# Altium integrated library TI Power Management Battery Management.IntLib: 949 symbols (part 40 of 62)
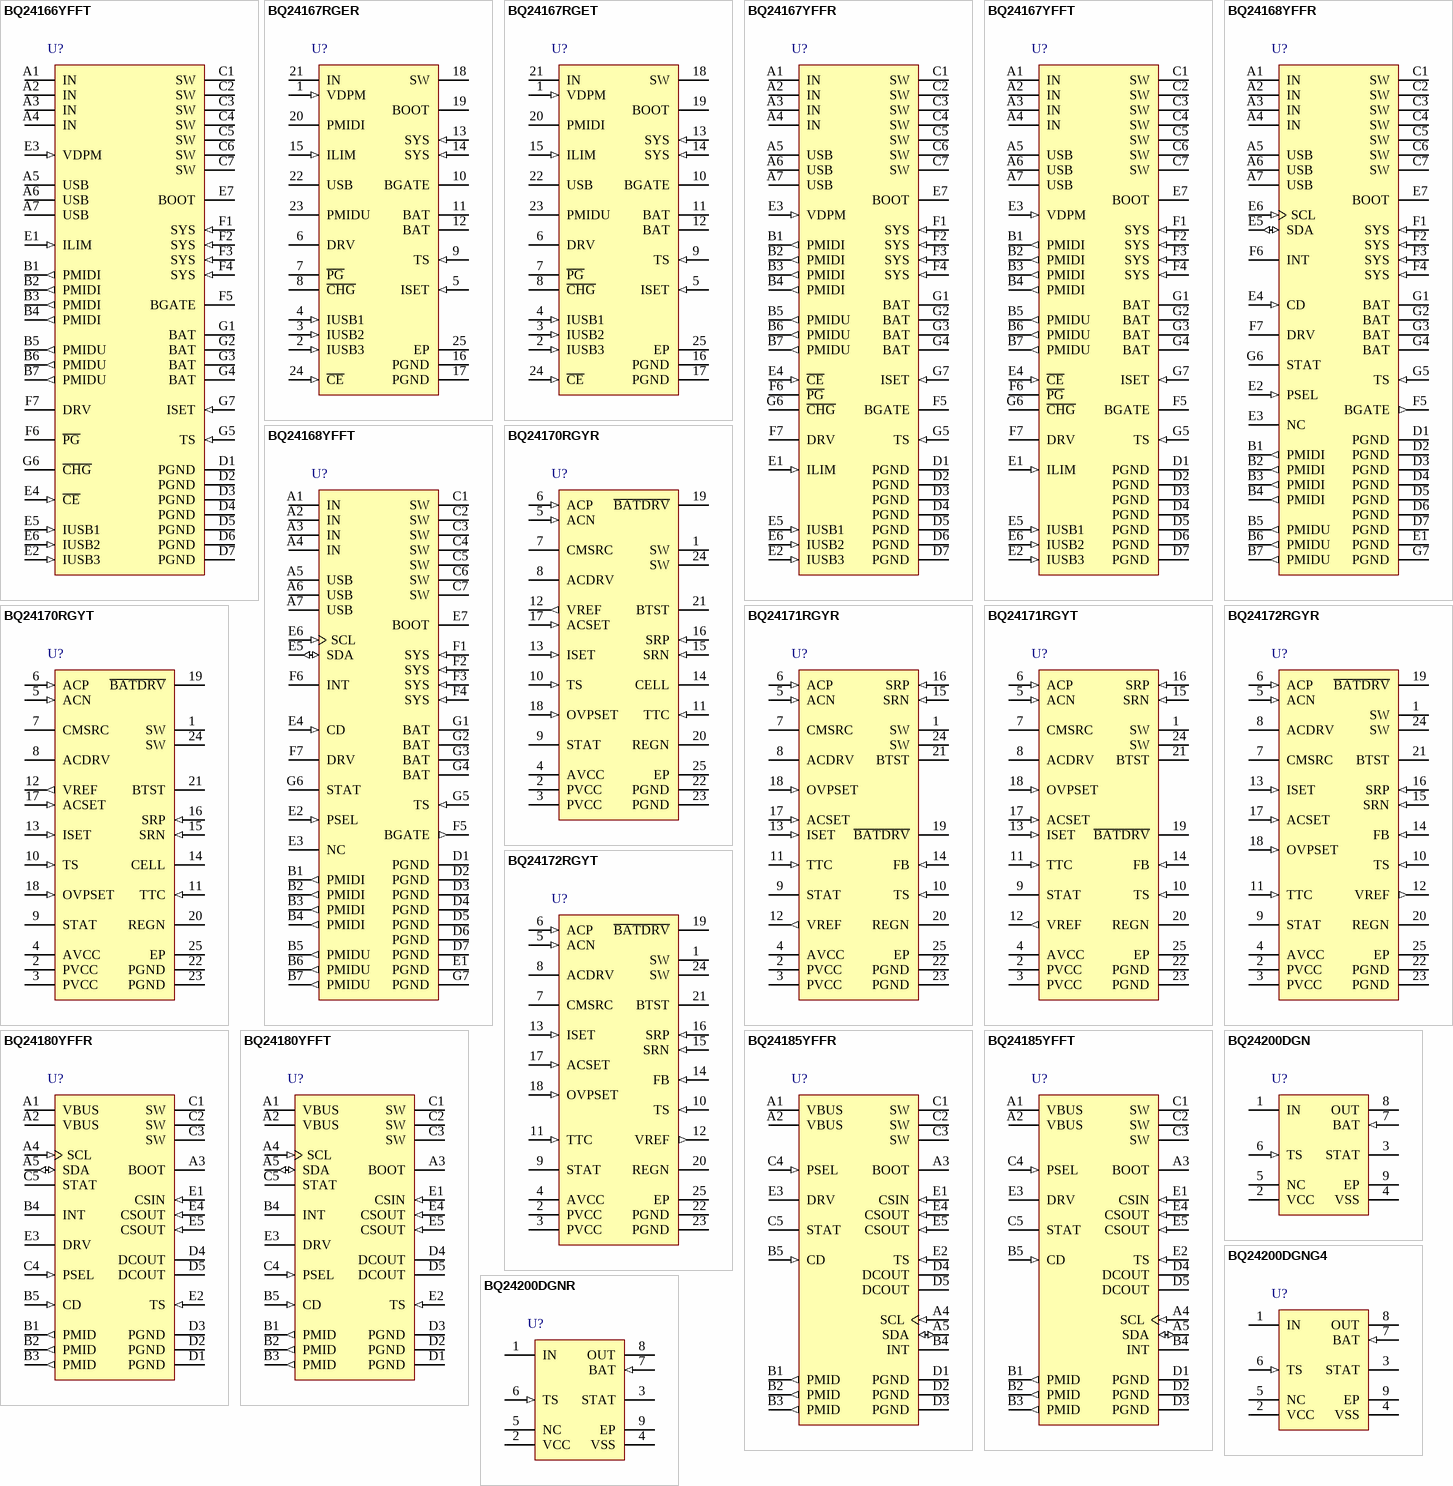
[diagram p73: symbols BQ24166YFFT to BQ24200DGNR]

## BQ24170RGYT
designator U?
1.6 MHz Synchronous Switch-Mode Li-Ion and Li-Polymer Stand-Alone Battery Charger, 4 V, -40 to 85 degC, 24-pin VQFN (RGY), Green (RoHS & no Sb/Br); PartNumber: BQ24170RGYT; Manufacturer: Texas Instruments; Lead Acid: N; SubFamily: Battery Charge Management; Vin(Min)(V): 4; DatasheetVersion: SLUSAD2B; PackageVersion: revI, Jun-2011; PackageReference: RGY24-3100X2050TP; PackageDescription: 24-Leads Plastic Quad Flatpack No-Lead, 5.5 x 3.5 x 0.9 mm Body, 0.5 mm Pitch, Exposed Pad; Supplier 1: Digi-Key; Supplier Part Number 1: 296-28049-2-ND; Supplier 2: Digi-Key; Supplier Part Number 2: 296-28049-1-ND; Supplier 3: Digi-Key; Supplier Part Number 3: 296-28049-6-ND; Supplier 4: Newark; Supplier Part Number 4: 57T9698; Supplier 5: Mouser; Supplier Part Number 5: 595-BQ24170RGYT; Eco-Plan: Green (RoHS & no Sb/Br); Li-Ion: N; Li-Polymer: N; NiCd: N; NiMH: N; Over Voltage Protection: N; Mounting Technology: Surface Mount; Code_JEDEC: MO-241-BA; ComponentLink1Description: Datasheet; ComponentLink1URL: http://www.ti.com/general/docs/lit/getliterature.tsp?genericPartNumber=BQ24170&fileType=pdf
footprint RGY24-3100X2050TP (QFN, 24-Leads, Body 5.5x3.5mm, Pitch 0.5mm, Thermal Pad 3.1x2.05mm, TI Recommended)
pins: 1 SW (power) "Switching node, charge current output inductor connection. Connect the 0.047-uF bootstrap capacitor from SW to BTST.", 2 PVCC (power) "Charger input voltage. Connect at least 10-uF ceramic capacitor from PVCC to PGND and place it as close as possible to IC", 3 PVCC (power) "Charger input voltage. Connect at least 10-uF ceramic capacitor from PVCC to PGND and place it as close as possible to IC", 4 AVCC (power) "IC power positive supply. Place a 1-uF ceramic capacitor from AVCC to AGND and place it as close as possible to IC. Place a 10-ohm resistor from input side to AVCC pin to filter the noise. For 5V input, a 5-ohm resistor is (See Datasheet)", 5 ACN (in) "Adapter current sense resistor negative input. A 0.1-uF ceramic capacitor is placed from ACN to ACP to provide differential-mode filtering. An optional 0.1-uF ceramic capacitor is placed from ACN pin to AGND for common-mode (See Datasheet)", 6 ACP (in) "Adapter current sense resistor positive input. A 0.1-uF ceramic capacitor is placed from ACN to ACP to provide differential-mode filtering. A 0.1-uF ceramic capacitor is placed from ACP pin to AGND for common-mode filtering.", 7 CMSRC "Connect to common source of N-channel ACFET and reverse blocking MOSFET (RBFET). Place 4-kohm resistor from CMSRC pin to the common source of ACFET and RBFET to control the turn-on speed. The resistance between ACDRV and CMSRC (See Datasheet)", 8 ACDRV "AC adapter to system switch driver output. Connect to 4-kohm resistor then to the gate of the ACFET N-channel power MOSFET and the reverse conduction blocking N-channel power MOSFET. Connect both FETs as common-source. The (See Datasheet)", 9 STAT (hiz) "Open-drain charge status pin with 10-kohm pull up to power rail. The STAT pin can be used to drive LED or communicate with the host processor. It indicates various charger operations: LOW when charge in progress. HIGH when (See Datasheet)", 10 TS (in) "Temperature qualification voltage input. Connect a negative temperature coefficient thermistor. Program the hot and cold temperature window with a resistor divider from VREF to TS to AGND. The temperature qualification (See Datasheet)", 11 TTC (in) "Safety Timer and termination control. Connect a capacitor from this node to AGND to set the fast charge safety timer(5.6min/nF). Pre-charge timer is internally fixed to 30 minutes. Pull the TTC to LOW to disable the charge (See Datasheet)", 12 VREF (out) "3.3V reference voltage output. Place a 1-uF ceramic capacitor from VREF to AGND pin close to the IC. This voltage could be used for programming ISET and ACSET and TS pins. It may also serve as the pull-up rail of STAT pin (See Datasheet)", 13 ISET (in) "Fast charge current set point. Use a voltage divider from VREF to ISET to AGND to set the fast charge current: ICHG=VISET/(20*RSR) The pre-charge and termination current is internally as one tenth of the charge current. The (See Datasheet)", 14 CELL "Cell selection pin. Set CELL pin LOW for 1-cell, Float for 2-cell (0.8V-1.8V), and HIGH for 3-cell with a fixed 4.2V per cell.", 15 SRN (in) "Charge current sense resistor negative input. A 0.1-uF ceramic capacitor is placed from SRN to SRP to provide differential-mode filtering. A 0.1-uF ceramic capacitor is placed from SRN pin to AGND for common-mode filtering.", 16 SRP (in) "Charge current sense resistor, positive input. A 0.1-uF ceramic capacitor is placed from SRN to SRP to provide differential-mode filtering. A 0.1-uF ceramic capacitor is placed from SRP pin to AGND for common-mode filtering.", 17 ACSET (in) "Input current set point. Use a voltage divider from VREF to ACSET to AGND to set this value:IDPM=VACSET/(20*RAC)", 18 OVPSET (in) "Valid input voltage set point. Use a voltage divider from input to OVPSET to AGND to set this voltage. The voltage above internal 1.6V reference indicates input over-voltage, and the voltage below internal 0.5V reference (See Datasheet)", 19 ~{BATDRV} "Battery discharge MOSFET gate driver output. Connect to 1kohm resistor to the gate of the BATFET P-channel power MOSFET. Connect the source of the BATFET to the system load voltage node. Connect the drain of the BATFET to (See Datasheet)", 20 REGN (power) "PWM low side driver positive 6V supply output. Connect a 1-uF ceramic capacitor from REGN to PGND pin, close to the IC. Generate high-side driver bootstrap voltage by integrated diode from REGN to BTST", 21 BTST (power) "PWM high side driver positive supply. Connect the 0.047-uF bootstrap capacitor from SW to BTST.", 22 PGND (power) "Power ground. Ground connection for high-current power converter node. On PCB layout, connect directly to ground connection of input and output capacitors of the charger. Only connect to AGND through the Thermal Pad (See Datasheet)", 23 PGND (power) "Power ground. Ground connection for high-current power converter node. On PCB layout, connect directly to ground connection of input and output capacitors of the charger. Only connect to AGND through the Thermal Pad (See Datasheet)", 24 SW (power) "Switching node, charge current output inductor connection. Connect the 0.047-uF bootstrap capacitor from SW to BTST.", 25 EP (power) "Exposed pad beneath the IC. Always solder Thermal Pad to the board, and have vias on the Thermal  Pad plane star-connecting to AGND and ground plane for high-current power converter. It dissipates the heat from the IC."

## BQ24171RGYR
designator U?
JEITA Compliant Stand-Alone Switch-Mode Li-Ion and Li-Polymer Battery Charger, 4.5 V, -40 to 85 degC, 24-pin VQFN (RGY), Green (RoHS & no Sb/Br); PartNumber: BQ24171RGYR; Manufacturer: Texas Instruments; Lead Acid: N; SubFamily: Battery Charge Management; Vin(Min)(V): 4.5; DatasheetVersion: SLUSAF2A; PackageVersion: revI, Jun-2011; PackageReference: RGY24-3100X2050TP; PackageDescription: 24-Leads Plastic Quad Flatpack No-Lead, 5.5 x 3.5 x 0.9 mm Body, 0.5 mm Pitch, Exposed Pad; Supplier 1: Digi-Key; Supplier Part Number 1: BQ24171RGYR-ND; Supplier 2: Newark; Supplier Part Number 2: 40T4615; Supplier 3: Mouser; Supplier Part Number 3: 595-BQ24171RGYR; Eco-Plan: Green (RoHS & no Sb/Br); Li-Ion: N; Li-Polymer: N; NiCd: N; NiMH: N; Over Voltage Protection: N; Mounting Technology: Surface Mount; Code_JEDEC: MO-241-BA; ComponentLink1Description: Datasheet; ComponentLink1URL: http://www.ti.com/general/docs/lit/getliterature.tsp?genericPartNumber=BQ24171&fileType=pdf
footprint RGY24-3100X2050TP (QFN, 24-Leads, Body 5.5x3.5mm, Pitch 0.5mm, Thermal Pad 3.1x2.05mm, TI Recommended)
pins: 1 SW (power) "Switching node, charge current output inductor connection. Connect the 0.047-uF bootstrap capacitor from SW to BTST.", 2 PVCC (power) "Charger input voltage. Connect at least 10-uF ceramic capacitor from PVCC to PGND and place it as close as possible to IC", 3 PVCC (power) "Charger input voltage. Connect at least 10-uF ceramic capacitor from PVCC to PGND and place it as close as possible to IC", 4 AVCC (power) "IC power positive supply. Place a 1-uF ceramic capacitor from AVCC to AGND and place it as close as possible to IC. Place a 10-ohm resistor from input side to AVCC pin to filter the noise. For 5V input, a 5-ohm resistor is (See Datasheet)", 5 ACN (in) "Adapter current sense resistor negative input. A 0.1-uF ceramic capacitor is placed from ACN to ACP to provide differential-mode filtering. An optional 0.1-uF ceramic capacitor is placed from ACN pin to AGND for common-mode (See Datasheet)", 6 ACP (in) "Adapter current sense resistor positive input. A 0.1-uF ceramic capacitor is placed from ACN to ACP to provide differential-mode filtering. A 0.1-uF ceramic capacitor is placed from ACP pin to AGND for common-mode filtering.", 7 CMSRC "Connect to common source of N-channel ACFET and reverse blocking MOSFET (RBFET). Place 4-kohm resistor from CMSRC pin to the common source of ACFET and RBFET to control the turn-on speed. The resistance between ACDRV and (See Datasheet)", 8 ACDRV "AC adapter to system switch driver output. Connect to 4-kohm resistor then to the gate of the ACFET N-channel power MOSFET and the reverse conduction blocking N-channel power MOSFET. Connect both FETs as common-source. The (See Datasheet)", 9 STAT (hiz) "Open-drain charge status pin with 10-kohm pull up to power rail. The STAT pin can be used to drive LED or communicate with the host processor. It indicates various charger operations: LOW when charge in progress. HIGH when (See Datasheet)", 10 TS (in) "Temperature qualification voltage input. Connect a negative temperature coefficient thermistor. Program the hot and cold temperature window with a resistor divider from VREF to TS to AGND.  The 103AT thermistor is (See Datasheet)", 11 TTC (in) "Safety Timer and termination control. Connect a capacitor from this node to AGND to set the fast charge safety timer(5.6min/nF). Pre-charge timer is internally fixed to 30 minutes. Pull the TTC to LOW to disable the charge (See Datasheet)", 12 VREF (out) "3.3V reference voltage output. Place a 1-uF ceramic capacitor from VREF to AGND pin close to the IC. This voltage could be used for programming ISET and ACSET and TS pins. It may also serve as the pull-up rail of STAT pin (See Datasheet)", 13 ISET (in) "Fast charge current set point. Use a voltage divider from VREF to ISET to AGND to set the fast charge current: ICHG=VISET/(20*RSR) The pre-charge and termination current is internally as one tenth of the charge current. The (See Datasheet)", 14 FB (in) "Charge voltage analog feedback adjustment. Connect the output of a resistor divider powered from the (bq24172) battery terminals to VFB to AGND. Output voltage is regulated to 2.1V on FB pin during constant-voltage mode", 15 SRN (in) "Charge current sense resistor negative input. A 0.1-uF ceramic capacitor is placed from SRN to SRP to provide differential-mode filtering. A 0.1-uF ceramic capacitor is placed from SRN pin to AGND for common-mode filtering.", 16 SRP (in) "Charge current sense resistor, positive input. A 0.1-uF ceramic capacitor is placed from SRN to SRP to provide differential-mode filtering. A 0.1-uF ceramic capacitor is placed from SRP pin to AGND for common-mode filtering.", 17 ACSET (in) "Input current set point. Use a voltage divider from VREF to ACSET to AGND to set this value:IDPM=VACSET/(20*RAC)", 18 OVPSET (in) "Valid input voltage set point. Use a voltage divider from input to OVPSET to AGND to set this voltage. The voltage above internal 1.6V reference indicates input over-voltage, and the voltage below internal 0.5V reference (See Datasheet)", 19 ~{BATDRV} "Battery discharge MOSFET gate driver output. Connect to 1kohm resistor to the gate of the BATFET P-channel power MOSFET. Connect the source of the BATFET to the system load voltage node. Connect the drain of the BATFET to (See Datasheet)", 20 REGN (power) "PWM low side driver positive 6V supply output. Connect a 1-uF ceramic capacitor from REGN to PGND pin, close to the IC. Generate high-side driver bootstrap voltage by integrated diode from REGN to BTST", 21 BTST (power) "PWM high side driver positive supply. Connect the 0.047-uF bootstrap capacitor from SW to BTST.", 22 PGND (power) "Power ground. Ground connection for high-current power converter node. On PCB layout, connect directly to ground connection of input and output capacitors of the charger. Only connect to AGND through the Thermal Pad (See Datasheet)", 23 PGND (power) "Power ground. Ground connection for high-current power converter node. On PCB layout, connect directly to ground connection of input and output capacitors of the charger. Only connect to AGND through the Thermal Pad (See Datasheet)", 24 SW (power) "Switching node, charge current output inductor connection. Connect the 0.047-uF bootstrap capacitor from SW to BTST.", 25 EP (power) "Exposed pad beneath the IC. Always solder Thermal Pad to the board, and have vias on the Thermal  Pad plane star-connecting to AGND and ground plane for high-current power converter. It dissipates the heat from the IC."

## BQ24171RGYT
designator U?
JEITA Compliant Stand-Alone Switch-Mode Li-Ion and Li-Polymer Battery Charger, 4.5 V, -40 to 85 degC, 24-pin VQFN (RGY), Green (RoHS & no Sb/Br); PartNumber: BQ24171RGYT; Manufacturer: Texas Instruments; Lead Acid: N; SubFamily: Battery Charge Management; Vin(Min)(V): 4.5; DatasheetVersion: SLUSAF2A; PackageVersion: revI, Jun-2011; PackageReference: RGY24-3100X2050TP; PackageDescription: 24-Leads Plastic Quad Flatpack No-Lead, 5.5 x 3.5 x 0.9 mm Body, 0.5 mm Pitch, Exposed Pad; Supplier 1: Digi-Key; Supplier Part Number 1: 296-28315-2-ND; Supplier 2: Digi-Key; Supplier Part Number 2: 296-28315-1-ND; Supplier 3: Digi-Key; Supplier Part Number 3: 296-28315-6-ND; Supplier 4: Newark; Supplier Part Number 4: 40T4616; Supplier 5: Mouser; Supplier Part Number 5: 595-BQ24171RGYT; Eco-Plan: Green (RoHS & no Sb/Br); Li-Ion: N; Li-Polymer: N; NiCd: N; NiMH: N; Over Voltage Protection: N; Mounting Technology: Surface Mount; Code_JEDEC: MO-241-BA; ComponentLink1Description: Datasheet; ComponentLink1URL: http://www.ti.com/general/docs/lit/getliterature.tsp?genericPartNumber=BQ24171&fileType=pdf
footprint RGY24-3100X2050TP (QFN, 24-Leads, Body 5.5x3.5mm, Pitch 0.5mm, Thermal Pad 3.1x2.05mm, TI Recommended)
pins: 1 SW (power) "Switching node, charge current output inductor connection. Connect the 0.047-uF bootstrap capacitor from SW to BTST.", 2 PVCC (power) "Charger input voltage. Connect at least 10-uF ceramic capacitor from PVCC to PGND and place it as close as possible to IC", 3 PVCC (power) "Charger input voltage. Connect at least 10-uF ceramic capacitor from PVCC to PGND and place it as close as possible to IC", 4 AVCC (power) "IC power positive supply. Place a 1-uF ceramic capacitor from AVCC to AGND and place it as close as possible to IC. Place a 10-ohm resistor from input side to AVCC pin to filter the noise. For 5V input, a 5-ohm resistor is (See Datasheet)", 5 ACN (in) "Adapter current sense resistor negative input. A 0.1-uF ceramic capacitor is placed from ACN to ACP to provide differential-mode filtering. An optional 0.1-uF ceramic capacitor is placed from ACN pin to AGND for common-mode (See Datasheet)", 6 ACP (in) "Adapter current sense resistor positive input. A 0.1-uF ceramic capacitor is placed from ACN to ACP to provide differential-mode filtering. A 0.1-uF ceramic capacitor is placed from ACP pin to AGND for common-mode filtering.", 7 CMSRC "Connect to common source of N-channel ACFET and reverse blocking MOSFET (RBFET). Place 4-kohm resistor from CMSRC pin to the common source of ACFET and RBFET to control the turn-on speed. The resistance between ACDRV and (See Datasheet)", 8 ACDRV "AC adapter to system switch driver output. Connect to 4-kohm resistor then to the gate of the ACFET N-channel power MOSFET and the reverse conduction blocking N-channel power MOSFET. Connect both FETs as common-source. The (See Datasheet)", 9 STAT (hiz) "Open-drain charge status pin with 10-kohm pull up to power rail. The STAT pin can be used to drive LED or communicate with the host processor. It indicates various charger operations: LOW when charge in progress. HIGH when (See Datasheet)", 10 TS (in) "Temperature qualification voltage input. Connect a negative temperature coefficient thermistor. Program the hot and cold temperature window with a resistor divider from VREF to TS to AGND.  The 103AT thermistor is (See Datasheet)", 11 TTC (in) "Safety Timer and termination control. Connect a capacitor from this node to AGND to set the fast charge safety timer(5.6min/nF). Pre-charge timer is internally fixed to 30 minutes. Pull the TTC to LOW to disable the charge (See Datasheet)", 12 VREF (out) "3.3V reference voltage output. Place a 1-uF ceramic capacitor from VREF to AGND pin close to the IC. This voltage could be used for programming ISET and ACSET and TS pins. It may also serve as the pull-up rail of STAT pin (See Datasheet)", 13 ISET (in) "Fast charge current set point. Use a voltage divider from VREF to ISET to AGND to set the fast charge current: ICHG=VISET/(20*RSR) The pre-charge and termination current is internally as one tenth of the charge current. The (See Datasheet)", 14 FB (in) "Charge voltage analog feedback adjustment. Connect the output of a resistor divider powered from the (bq24172) battery terminals to VFB to AGND. Output voltage is regulated to 2.1V on FB pin during constant-voltage mode", 15 SRN (in) "Charge current sense resistor negative input. A 0.1-uF ceramic capacitor is placed from SRN to SRP to provide differential-mode filtering. A 0.1-uF ceramic capacitor is placed from SRN pin to AGND for common-mode filtering.", 16 SRP (in) "Charge current sense resistor, positive input. A 0.1-uF ceramic capacitor is placed from SRN to SRP to provide differential-mode filtering. A 0.1-uF ceramic capacitor is placed from SRP pin to AGND for common-mode filtering.", 17 ACSET (in) "Input current set point. Use a voltage divider from VREF to ACSET to AGND to set this value:IDPM=VACSET/(20*RAC)", 18 OVPSET (in) "Valid input voltage set point. Use a voltage divider from input to OVPSET to AGND to set this voltage. The voltage above internal 1.6V reference indicates input over-voltage, and the voltage below internal 0.5V reference (See Datasheet)", 19 ~{BATDRV} "Battery discharge MOSFET gate driver output. Connect to 1kohm resistor to the gate of the BATFET P-channel power MOSFET. Connect the source of the BATFET to the system load voltage node. Connect the drain of the BATFET to (See Datasheet)", 20 REGN (power) "PWM low side driver positive 6V supply output. Connect a 1-uF ceramic capacitor from REGN to PGND pin, close to the IC. Generate high-side driver bootstrap voltage by integrated diode from REGN to BTST", 21 BTST (power) "PWM high side driver positive supply. Connect the 0.047-uF bootstrap capacitor from SW to BTST.", 22 PGND (power) "Power ground. Ground connection for high-current power converter node. On PCB layout, connect directly to ground connection of input and output capacitors of the charger. Only connect to AGND through the Thermal Pad (See Datasheet)", 23 PGND (power) "Power ground. Ground connection for high-current power converter node. On PCB layout, connect directly to ground connection of input and output capacitors of the charger. Only connect to AGND through the Thermal Pad (See Datasheet)", 24 SW (power) "Switching node, charge current output inductor connection. Connect the 0.047-uF bootstrap capacitor from SW to BTST.", 25 EP (power) "Exposed pad beneath the IC. Always solder Thermal Pad to the board, and have vias on the Thermal  Pad plane star-connecting to AGND and ground plane for high-current power converter. It dissipates the heat from the IC."

## BQ24172RGYR
designator U?
1.6 MHz Synchronous Switch-Mode Li-Ion and Li-Polymer Stand-alone Battery Charge, 4.5 V, -40 to 85 degC, 24-pin VQFN (RGY), Green (RoHS & no Sb/Br); PartNumber: BQ24172RGYR; Manufacturer: Texas Instruments; Lead Acid: N; SubFamily: Battery Charge Management; Vin(Min)(V): 4.5; DatasheetVersion: SLUSAD2B; PackageVersion: revI, Jun-2011; PackageReference: RGY24-3100X2050TP; PackageDescription: 24-Leads Plastic Quad Flatpack No-Lead, 5.5 x 3.5 x 0.9 mm Body, 0.5 mm Pitch, Exposed Pad; Supplier 1: Digi-Key; Supplier Part Number 1: BQ24172RGYR-ND; Supplier 2: Newark; Supplier Part Number 2: 27T2629; Supplier 3: Mouser; Supplier Part Number 3: 595-BQ24172RGYR; Eco-Plan: Green (RoHS & no Sb/Br); Li-Ion: N; Li-Polymer: N; NiCd: N; NiMH: N; Over Voltage Protection: N; Mounting Technology: Surface Mount; Code_JEDEC: MO-241-BA; ComponentLink1Description: Datasheet; ComponentLink1URL: http://www.ti.com/general/docs/lit/getliterature.tsp?genericPartNumber=BQ24172&fileType=pdf
footprint RGY24-3100X2050TP (QFN, 24-Leads, Body 5.5x3.5mm, Pitch 0.5mm, Thermal Pad 3.1x2.05mm, TI Recommended)
pins: 1 SW (power) "Switching node, charge current output inductor connection. Connect the 0.047-uF bootstrap capacitor from SW to BTST.", 2 PVCC (power) "Charger input voltage. Connect at least 10-uF ceramic capacitor from PVCC to PGND and place it as close as possible to IC", 3 PVCC (power) "Charger input voltage. Connect at least 10-uF ceramic capacitor from PVCC to PGND and place it as close as possible to IC", 4 AVCC (power) "IC power positive supply. Place a 1-uF ceramic capacitor from AVCC to AGND and place it as close as possible to IC. Place a 10-ohm resistor from input side to AVCC pin to filter the noise. For 5V input, a 5-ohm resistor is (See Datasheet)", 5 ACN (in) "Adapter current sense resistor negative input. A 0.1-uF ceramic capacitor is placed from ACN to ACP to provide differential-mode filtering. An optional 0.1-uF ceramic capacitor is placed from ACN pin to AGND for common-mode (See Datasheet)", 6 ACP (in) "Adapter current sense resistor positive input. A 0.1-uF ceramic capacitor is placed from ACN to ACP to provide differential-mode filtering. A 0.1-uF ceramic capacitor is placed from ACP pin to AGND for common-mode filtering.", 7 CMSRC "Connect to common source of N-channel ACFET and reverse blocking MOSFET (RBFET). Place 4-kohm resistor from CMSRC pin to the common source of ACFET and RBFET to control the turn-on speed. The resistance between ACDRV and (See Datasheet)", 8 ACDRV "AC adapter to system switch driver output. Connect to 4-kohm resistor then to the gate of the ACFET N-channel power MOSFET and the reverse conduction blocking N-channel power MOSFET. Connect both FETs as common-source. The (See Datasheet)", 9 STAT (hiz) "Open-drain charge status pin with 10-kohm pull up to power rail. The STAT pin can be used to drive LED or communicate with the host processor. It indicates various charger operations: LOW when charge in progress. HIGH when (See Datasheet)", 10 TS (in) "Temperature qualification voltage input. Connect a negative temperature coefficient thermistor. Program the hot and cold temperature window with a resistor divider from VREF to TS to AGND. The temperature qualification (See Datasheet)", 11 TTC (in) "Safety Timer and termination control. Connect a capacitor from this node to AGND to set the fast charge safety timer(5.6min/nF). Pre-charge timer is internally fixed to 30 minutes. Pull the TTC to LOW to disable the charge (See Datasheet)", 12 VREF (out) "3.3V reference voltage output. Place a 1-uF ceramic capacitor from VREF to AGND pin close to the IC. This voltage could be used for programming ISET and ACSET and TS pins. It may also serve as the pull-up rail of STAT pin (See Datasheet)", 13 ISET (in) "Fast charge current set point. Use a voltage divider from VREF to ISET to AGND to set the fast charge current: ICHG=VISET/(20*RSR) The pre-charge and termination current is internally as one tenth of the charge current. The (See Datasheet)", 14 FB (in) "Charge voltage analog feedback adjustment. Connect the output of a resistor divider powered from the (bq24172) battery terminals to VFB to AGND. Output voltage is regulated to 2.1V on FB pin during constant-voltage mode", 15 SRN (in) "Charge current sense resistor negative input. A 0.1-uF ceramic capacitor is placed from SRN to SRP to provide differential-mode filtering. A 0.1-uF ceramic capacitor is placed from SRN pin to AGND for common-mode filtering.", 16 SRP (in) "Charge current sense resistor, positive input. A 0.1-uF ceramic capacitor is placed from SRN to SRP to provide differential-mode filtering. A 0.1-uF ceramic capacitor is placed from SRP pin to AGND for common-mode filtering.", 17 ACSET (in) "Input current set point. Use a voltage divider from VREF to ACSET to AGND to set this value:IDPM=VACSET/(20*RAC)", 18 OVPSET (in) "Valid input voltage set point. Use a voltage divider from input to OVPSET to AGND to set this voltage. The voltage above internal 1.6V reference indicates input over-voltage, and the voltage below internal 0.5V reference (See Datasheet)", 19 ~{BATDRV} "Battery discharge MOSFET gate driver output. Connect to 1kohm resistor to the gate of the BATFET P-channel power MOSFET. Connect the source of the BATFET to the system load voltage node. Connect the drain of the BATFET to (See Datasheet)", 20 REGN (power) "PWM low side driver positive 6V supply output. Connect a 1-uF ceramic capacitor from REGN to PGND pin, close to the IC. Generate high-side driver bootstrap voltage by integrated diode from REGN to BTST", 21 BTST (power) "PWM high side driver positive supply. Connect the 0.047-uF bootstrap capacitor from SW to BTST.", 22 PGND (power) "Power ground. Ground connection for high-current power converter node. On PCB layout, connect directly to ground connection of input and output capacitors of the charger. Only connect to AGND through the Thermal Pad (See Datasheet)", 23 PGND (power) "Power ground. Ground connection for high-current power converter node. On PCB layout, connect directly to ground connection of input and output capacitors of the charger. Only connect to AGND through the Thermal Pad (See Datasheet)", 24 SW (power) "Switching node, charge current output inductor connection. Connect the 0.047-uF bootstrap capacitor from SW to BTST.", 25 EP (power) "Exposed pad beneath the IC. Always solder Thermal Pad to the board, and have vias on the Thermal  Pad plane star-connecting to AGND and ground plane for high-current power converter. It dissipates the heat from the IC."

## BQ24172RGYT
designator U?
1.6 MHz Synchronous Switch-Mode Li-Ion and Li-Polymer Stand-alone Battery Charge, 4.5 V, -40 to 85 degC, 24-pin VQFN (RGY), Green (RoHS & no Sb/Br); PartNumber: BQ24172RGYT; Manufacturer: Texas Instruments; Lead Acid: N; SubFamily: Battery Charge Management; Vin(Min)(V): 4.5; DatasheetVersion: SLUSAD2B; PackageVersion: revI, Jun-2011; PackageReference: RGY24-3100X2050TP; PackageDescription: 24-Leads Plastic Quad Flatpack No-Lead, 5.5 x 3.5 x 0.9 mm Body, 0.5 mm Pitch, Exposed Pad; Supplier 1: Digi-Key; Supplier Part Number 1: 296-28050-2-ND; Supplier 2: Digi-Key; Supplier Part Number 2: 296-28050-1-ND; Supplier 3: Digi-Key; Supplier Part Number 3: 296-28050-6-ND; Supplier 4: Newark; Supplier Part Number 4: 57T9699; Supplier 5: Mouser; Supplier Part Number 5: 595-BQ24172RGYT; Eco-Plan: Green (RoHS & no Sb/Br); Li-Ion: N; Li-Polymer: N; NiCd: N; NiMH: N; Over Voltage Protection: N; Mounting Technology: Surface Mount; Code_JEDEC: MO-241-BA; ComponentLink1Description: Datasheet; ComponentLink1URL: http://www.ti.com/general/docs/lit/getliterature.tsp?genericPartNumber=BQ24172&fileType=pdf
footprint RGY24-3100X2050TP (QFN, 24-Leads, Body 5.5x3.5mm, Pitch 0.5mm, Thermal Pad 3.1x2.05mm, TI Recommended)
pins: 1 SW (power) "Switching node, charge current output inductor connection. Connect the 0.047-uF bootstrap capacitor from SW to BTST.", 2 PVCC (power) "Charger input voltage. Connect at least 10-uF ceramic capacitor from PVCC to PGND and place it as close as possible to IC", 3 PVCC (power) "Charger input voltage. Connect at least 10-uF ceramic capacitor from PVCC to PGND and place it as close as possible to IC", 4 AVCC (power) "IC power positive supply. Place a 1-uF ceramic capacitor from AVCC to AGND and place it as close as possible to IC. Place a 10-ohm resistor from input side to AVCC pin to filter the noise. For 5V input, a 5-ohm resistor is (See Datasheet)", 5 ACN (in) "Adapter current sense resistor negative input. A 0.1-uF ceramic capacitor is placed from ACN to ACP to provide differential-mode filtering. An optional 0.1-uF ceramic capacitor is placed from ACN pin to AGND for common-mode (See Datasheet)", 6 ACP (in) "Adapter current sense resistor positive input. A 0.1-uF ceramic capacitor is placed from ACN to ACP to provide differential-mode filtering. A 0.1-uF ceramic capacitor is placed from ACP pin to AGND for common-mode filtering.", 7 CMSRC "Connect to common source of N-channel ACFET and reverse blocking MOSFET (RBFET). Place 4-kohm resistor from CMSRC pin to the common source of ACFET and RBFET to control the turn-on speed. The resistance between ACDRV and (See Datasheet)", 8 ACDRV "AC adapter to system switch driver output. Connect to 4-kohm resistor then to the gate of the ACFET N-channel power MOSFET and the reverse conduction blocking N-channel power MOSFET. Connect both FETs as common-source. The (See Datasheet)", 9 STAT (hiz) "Open-drain charge status pin with 10-kohm pull up to power rail. The STAT pin can be used to drive LED or communicate with the host processor. It indicates various charger operations: LOW when charge in progress. HIGH when (See Datasheet)", 10 TS (in) "Temperature qualification voltage input. Connect a negative temperature coefficient thermistor. Program the hot and cold temperature window with a resistor divider from VREF to TS to AGND. The temperature qualification (See Datasheet)", 11 TTC (in) "Safety Timer and termination control. Connect a capacitor from this node to AGND to set the fast charge safety timer(5.6min/nF). Pre-charge timer is internally fixed to 30 minutes. Pull the TTC to LOW to disable the charge (See Datasheet)", 12 VREF (out) "3.3V reference voltage output. Place a 1-uF ceramic capacitor from VREF to AGND pin close to the IC. This voltage could be used for programming ISET and ACSET and TS pins. It may also serve as the pull-up rail of STAT pin (See Datasheet)", 13 ISET (in) "Fast charge current set point. Use a voltage divider from VREF to ISET to AGND to set the fast charge current: ICHG=VISET/(20*RSR) The pre-charge and termination current is internally as one tenth of the charge current. The (See Datasheet)", 14 FB (in) "Charge voltage analog feedback adjustment. Connect the output of a resistor divider powered from the (bq24172) battery terminals to VFB to AGND. Output voltage is regulated to 2.1V on FB pin during constant-voltage mode", 15 SRN (in) "Charge current sense resistor negative input. A 0.1-uF ceramic capacitor is placed from SRN to SRP to provide differential-mode filtering. A 0.1-uF ceramic capacitor is placed from SRN pin to AGND for common-mode filtering.", 16 SRP (in) "Charge current sense resistor, positive input. A 0.1-uF ceramic capacitor is placed from SRN to SRP to provide differential-mode filtering. A 0.1-uF ceramic capacitor is placed from SRP pin to AGND for common-mode filtering.", 17 ACSET (in) "Input current set point. Use a voltage divider from VREF to ACSET to AGND to set this value:IDPM=VACSET/(20*RAC)", 18 OVPSET (in) "Valid input voltage set point. Use a voltage divider from input to OVPSET to AGND to set this voltage. The voltage above internal 1.6V reference indicates input over-voltage, and the voltage below internal 0.5V reference (See Datasheet)", 19 ~{BATDRV} "Battery discharge MOSFET gate driver output. Connect to 1kohm resistor to the gate of the BATFET P-channel power MOSFET. Connect the source of the BATFET to the system load voltage node. Connect the drain of the BATFET to (See Datasheet)", 20 REGN (power) "PWM low side driver positive 6V supply output. Connect a 1-uF ceramic capacitor from REGN to PGND pin, close to the IC. Generate high-side driver bootstrap voltage by integrated diode from REGN to BTST", 21 BTST (power) "PWM high side driver positive supply. Connect the 0.047-uF bootstrap capacitor from SW to BTST.", 22 PGND (power) "Power ground. Ground connection for high-current power converter node. On PCB layout, connect directly to ground connection of input and output capacitors of the charger. Only connect to AGND through the Thermal Pad (See Datasheet)", 23 PGND (power) "Power ground. Ground connection for high-current power converter node. On PCB layout, connect directly to ground connection of input and output capacitors of the charger. Only connect to AGND through the Thermal Pad (See Datasheet)", 24 SW (power) "Switching node, charge current output inductor connection. Connect the 0.047-uF bootstrap capacitor from SW to BTST.", 25 EP (power) "Exposed pad beneath the IC. Always solder Thermal Pad to the board, and have vias on the Thermal  Pad plane star-connecting to AGND and ground plane for high-current power converter. It dissipates the heat from the IC."

## BQ24180YFFR
designator U?
Fully Integrated Switch-Mode 1-Cell Li-Ion Charger with Full USB Compliance, 4 V, 25-pin DSBGA (YFF), Green (RoHS & no Sb/Br); PartNumber: BQ24180YFFR; Manufacturer: Texas Instruments; Lead Acid: N; SubFamily: Battery Charge Management; Vin(Min)(V): 4; DatasheetVersion: SLUSA02A; PackageVersion: revAE, Nov-2011; PackageReference: YFF25-2200X2400DE; PackageDescription: 25-Ball Die-Size Ball Grid Array, 2.2 x 2.4 mm Body, 0.4 mm Pitch, Pb-Free; Supplier 1: Digi-Key; Supplier Part Number 1: 296-25889-2-ND; Supplier 2: Digi-Key; Supplier Part Number 2: 296-25889-1-ND; Supplier 3: Digi-Key; Supplier Part Number 3: 296-25889-6-ND; Supplier 4: Newark; Supplier Part Number 4: 79R9641; Supplier 5: Mouser; Supplier Part Number 5: 595-BQ24180YFFR; Eco-Plan: Green (RoHS & no Sb/Br); Li-Ion: N; Li-Polymer: N; NiCd: N; NiMH: N; Over Voltage Protection: N; Mounting Technology: Surface Mount; ComponentLink1Description: Datasheet; ComponentLink1URL: http://www.ti.com/general/docs/lit/getliterature.tsp?genericPartNumber=BQ24180&fileType=pdf
footprint YFF25-2200X2400DE (BGA, 25-Leads, Body 2.2x2.4mm, Pitch 0.4mm)
pins: A1 VBUS (power) "Charger Input Voltage. Connect to an input supply up to 16V. Bypass VBUS to PGND with a 1 uF ceramic capacitor. During boost mode, VBUS is regulated to 5V at up to 300mA to power USB OTG peripherals.", A2 VBUS (power) "Charger Input Voltage. Connect to an input supply up to 16V. Bypass VBUS to PGND with a 1 uF ceramic capacitor. During boost mode, VBUS is regulated to 5V at up to 300mA to power USB OTG peripherals.", A3 BOOT (power) "High-Side MOSFET Gate Driver Supply. Connect a 10nF ceramic capacitor (voltage rating above 10V) from BOOT pin to SW pin to supply the gate drive for the high side MOSFET.", A4 SCL (in) "I2C interface clock. Connect SCL to the logic rail through a 10k ohm resistor", A5 SDA (io) "I2C interface data. Connect SCL to the logic rail through a 10k ohm  resistor", B1 PMID (out) "Connection Point Between Reverse Blocking MOSFET and High-Side Switching MOSFET. Bypass PMID to PGND with a minimum of 3.3 uF ceramic capacitor. Use caution when connecting an external load to PMID. The PMID output is not (See Datasheet)", B2 PMID (out) "Connection Point Between Reverse Blocking MOSFET and High-Side Switching MOSFET. Bypass PMID to PGND with a minimum of 3.3 uF ceramic capacitor. Use caution when connecting an external load to PMID. The PMID output is not (See Datasheet)", B3 PMID (out) "Connection Point Between Reverse Blocking MOSFET and High-Side Switching MOSFET. Bypass PMID to PGND with a minimum of 3.3 uF ceramic capacitor. Use caution when connecting an external load to PMID. The PMID output is not (See Datasheet)", B4 INT (hiz) "Host Interface Status Output. INT is a low voltage open drain output used to signal charge status to the host processor. INT is pulled low during charging. When charging is complete or when charging is disabled, INT is high (See Datasheet)", B5 CD (in) "Hardware Disable Input. Connect CD to GND to enable charge. Drive CD high to disable charge and place the bq24185 into high impedance mode. Toggling CD resets the safety timer when in DEFAULT mode, but does not reset the (See Datasheet)", C1 SW (power) "Inductor Connection. Connect the switched side of the inductor to SW.", C2 SW (power) "Inductor Connection. Connect the switched side of the inductor to SW.", C3 SW (power) "Inductor Connection. Connect the switched side of the inductor to SW.", C4 PSEL (in) "USB Source Detection Input. Drive PSEL high to indicate a USB source is connected to the input and the PC mode default values should be used. When PSEL is high, the IC starts up with a 100mA input current limit. Drive PSEL (See Datasheet)", C5 STAT (hiz) "Status Output. STAT is an open drain output that is pulled low during charging. When charging is complete or when charging is disabled, STAT is high impedance. When a fault occurs, a 128µs pulse is sent out as an interrupt (See Datasheet)", D1 PGND (power) "Power ground. Connect to the ground plane for the circuit.", D2 PGND (power) "Power ground. Connect to the ground plane for the circuit.", D3 PGND (power) "Power ground. Connect to the ground plane for the circuit.", D4 DCOUT (hiz) "Accessory Power Output. DCOUT is connected to the battery through an internal pass FET. When enabled through I2C, DCOUT is connected to the battery. When disabled, DCOUT is high-impedance. Bypass DCOUT to PGND with at least (See Datasheet)", D5 DCOUT (hiz) "Accessory Power Output. DCOUT is connected to the battery through an internal pass FET. When enabled through I2C, DCOUT is connected to the battery. When disabled, DCOUT is high-impedance. Bypass DCOUT to PGND with at least (See Datasheet)", E1 CSIN (in) "Charge Current-Sense Input. Battery current is sensed via the voltage drop across an external sense resistor. Bypass CSIN to PGND with a 0.1uF ceramic capacitor.", E2 TS (in) "Battery Pack NTC Monitor. Connect TS to a 4.7kO NTC thermistor. During DEFAULT mode, when VTS >VCOLD or VTS<VHOT charging is suspended. If VHOT < VTS < VWARM charging current is reduced. The faults arereported by the I2C (See Datasheet)", E3 DRV (power) "Gate Drive Supply. DRV is the supply for the gate drive of the internal MOSFETs. Bypass DRV to PGND with a 1 uF ceramic capacitor. DRV may be used to drive external loads up to 10mA. DRV is active whenever the input is (See Datasheet)", E4 CSOUT (in) "Battery voltage and Current Sense Input. Connect to the positive terminal of the battery pack. CSOUT is also the supply for the DCOUT output and VBUS during boost mode. Bypass CSOUT to PGND with 1uF ceramic capacitor.", E5 CSOUT (in) "Battery voltage and Current Sense Input. Connect to the positive terminal of the battery pack. CSOUT is also the supply for the DCOUT output and VBUS during boost mode. Bypass CSOUT to PGND with 1uF ceramic capacitor."

## BQ24180YFFT
designator U?
Fully Integrated Switch-Mode 1-Cell Li-Ion Charger with Full USB Compliance, 4 V, 25-pin DSBGA (YFF), Green (RoHS & no Sb/Br); PartNumber: BQ24180YFFT; Manufacturer: Texas Instruments; Lead Acid: N; SubFamily: Battery Charge Management; Vin(Min)(V): 4; DatasheetVersion: SLUSA02A; PackageVersion: revAE, Nov-2011; PackageReference: YFF25-2200X2400DE; PackageDescription: 25-Ball Die-Size Ball Grid Array, 2.2 x 2.4 mm Body, 0.4 mm Pitch, Pb-Free; Supplier 1: Digi-Key; Supplier Part Number 1: 296-27177-2-ND; Supplier 2: Digi-Key; Supplier Part Number 2: 296-27177-1-ND; Supplier 3: Digi-Key; Supplier Part Number 3: 296-27177-6-ND; Supplier 4: Farnell; Supplier Part Number 4: 1815717RL; Supplier 5: Newark; Supplier Part Number 5: 69R4546; Supplier 6: Mouser; Supplier Part Number 6: 595-BQ24180YFFT; Eco-Plan: Green (RoHS & no Sb/Br); Li-Ion: N; Li-Polymer: N; NiCd: N; NiMH: N; Over Voltage Protection: N; Mounting Technology: Surface Mount; ComponentLink1Description: Datasheet; ComponentLink1URL: http://www.ti.com/general/docs/lit/getliterature.tsp?genericPartNumber=BQ24180&fileType=pdf
footprint YFF25-2200X2400DE (BGA, 25-Leads, Body 2.2x2.4mm, Pitch 0.4mm)
pins: A1 VBUS (power) "Charger Input Voltage. Connect to an input supply up to 16V. Bypass VBUS to PGND with a 1 uF ceramic capacitor. During boost mode, VBUS is regulated to 5V at up to 300mA to power USB OTG peripherals.", A2 VBUS (power) "Charger Input Voltage. Connect to an input supply up to 16V. Bypass VBUS to PGND with a 1 uF ceramic capacitor. During boost mode, VBUS is regulated to 5V at up to 300mA to power USB OTG peripherals.", A3 BOOT (power) "High-Side MOSFET Gate Driver Supply. Connect a 10nF ceramic capacitor (voltage rating above 10V) from BOOT pin to SW pin to supply the gate drive for the high side MOSFET.", A4 SCL (in) "I2C interface clock. Connect SCL to the logic rail through a 10k ohm resistor", A5 SDA (io) "I2C interface data. Connect SCL to the logic rail through a 10k ohm  resistor", B1 PMID (out) "Connection Point Between Reverse Blocking MOSFET and High-Side Switching MOSFET. Bypass PMID to PGND with a minimum of 3.3 uF ceramic capacitor. Use caution when connecting an external load to PMID. The PMID output is not (See Datasheet)", B2 PMID (out) "Connection Point Between Reverse Blocking MOSFET and High-Side Switching MOSFET. Bypass PMID to PGND with a minimum of 3.3 uF ceramic capacitor. Use caution when connecting an external load to PMID. The PMID output is not (See Datasheet)", B3 PMID (out) "Connection Point Between Reverse Blocking MOSFET and High-Side Switching MOSFET. Bypass PMID to PGND with a minimum of 3.3 uF ceramic capacitor. Use caution when connecting an external load to PMID. The PMID output is not (See Datasheet)", B4 INT (hiz) "Host Interface Status Output. INT is a low voltage open drain output used to signal charge status to the host processor. INT is pulled low during charging. When charging is complete or when charging is disabled, INT is high (See Datasheet)", B5 CD (in) "Hardware Disable Input. Connect CD to GND to enable charge. Drive CD high to disable charge and place the bq24185 into high impedance mode. Toggling CD resets the safety timer when in DEFAULT mode, but does not reset the (See Datasheet)", C1 SW (power) "Inductor Connection. Connect the switched side of the inductor to SW.", C2 SW (power) "Inductor Connection. Connect the switched side of the inductor to SW.", C3 SW (power) "Inductor Connection. Connect the switched side of the inductor to SW.", C4 PSEL (in) "USB Source Detection Input. Drive PSEL high to indicate a USB source is connected to the input and the PC mode default values should be used. When PSEL is high, the IC starts up with a 100mA input current limit. Drive PSEL (See Datasheet)", C5 STAT (hiz) "Status Output. STAT is an open drain output that is pulled low during charging. When charging is complete or when charging is disabled, STAT is high impedance. When a fault occurs, a 128µs pulse is sent out as an interrupt (See Datasheet)", D1 PGND (power) "Power ground. Connect to the ground plane for the circuit.", D2 PGND (power) "Power ground. Connect to the ground plane for the circuit.", D3 PGND (power) "Power ground. Connect to the ground plane for the circuit.", D4 DCOUT (hiz) "Accessory Power Output. DCOUT is connected to the battery through an internal pass FET. When enabled through I2C, DCOUT is connected to the battery. When disabled, DCOUT is high-impedance. Bypass DCOUT to PGND with at least (See Datasheet)", D5 DCOUT (hiz) "Accessory Power Output. DCOUT is connected to the battery through an internal pass FET. When enabled through I2C, DCOUT is connected to the battery. When disabled, DCOUT is high-impedance. Bypass DCOUT to PGND with at least (See Datasheet)", E1 CSIN (in) "Charge Current-Sense Input. Battery current is sensed via the voltage drop across an external sense resistor. Bypass CSIN to PGND with a 0.1uF ceramic capacitor.", E2 TS (in) "Battery Pack NTC Monitor. Connect TS to a 4.7kO NTC thermistor. During DEFAULT mode, when VTS >VCOLD or VTS<VHOT charging is suspended. If VHOT < VTS < VWARM charging current is reduced. The faults arereported by the I2C (See Datasheet)", E3 DRV (power) "Gate Drive Supply. DRV is the supply for the gate drive of the internal MOSFETs. Bypass DRV to PGND with a 1 uF ceramic capacitor. DRV may be used to drive external loads up to 10mA. DRV is active whenever the input is (See Datasheet)", E4 CSOUT (in) "Battery voltage and Current Sense Input. Connect to the positive terminal of the battery pack. CSOUT is also the supply for the DCOUT output and VBUS during boost mode. Bypass CSOUT to PGND with 1uF ceramic capacitor.", E5 CSOUT (in) "Battery voltage and Current Sense Input. Connect to the positive terminal of the battery pack. CSOUT is also the supply for the DCOUT output and VBUS during boost mode. Bypass CSOUT to PGND with 1uF ceramic capacitor."